# EAGLE library part ESP32C3 (library ESP32)
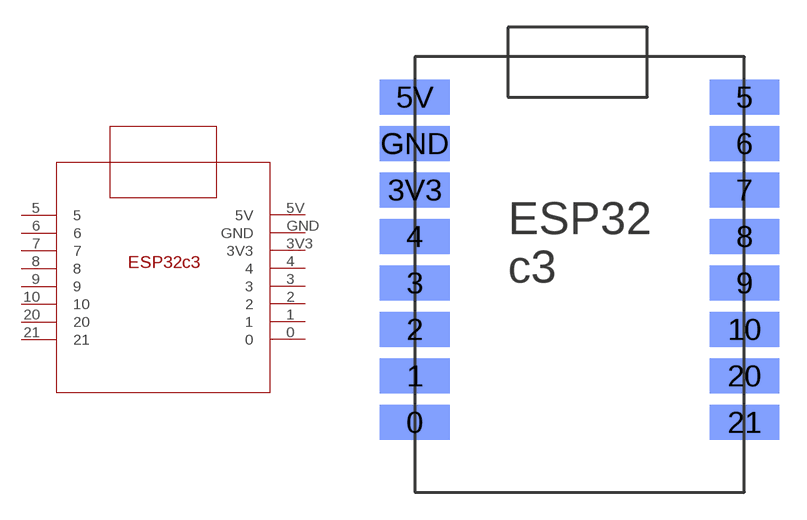
[diagram p0: symbol with the pads of ESP32C3_SMD; footprint ESP32C3_SMD]

Designator prefix -

## ESP32C3SMD  [ESP32C3_SMD]
0  0
1  1
2  2
3  3
3V3  3V3
4  4
5  5
5V  5V
6  6
7  7
8  8
9  9
10  10
20  20
21  21
GND  GND

## Footprint ESP32C3_SMD (pad centres in mm)
smd 3.81 x 1.93 bottom: 0 0,2.54; 1 0,5.08; 2 0,7.62; 3 0,10.16; 3V3 0,15.24; 4 0,12.7; 5 18,20.32; 5V 0,20.32; 6 18,17.78; 7 18,15.24; 8 18,12.7; 9 18,10.16; 10 18,7.62; 20 18,5.08; 21 18,2.54; GND 0,17.78